# Altium schematic symbol library Connectors-JST.SchLib: 20 symbols
Pins are listed as number, name and electrical type; pins without a type are passive.

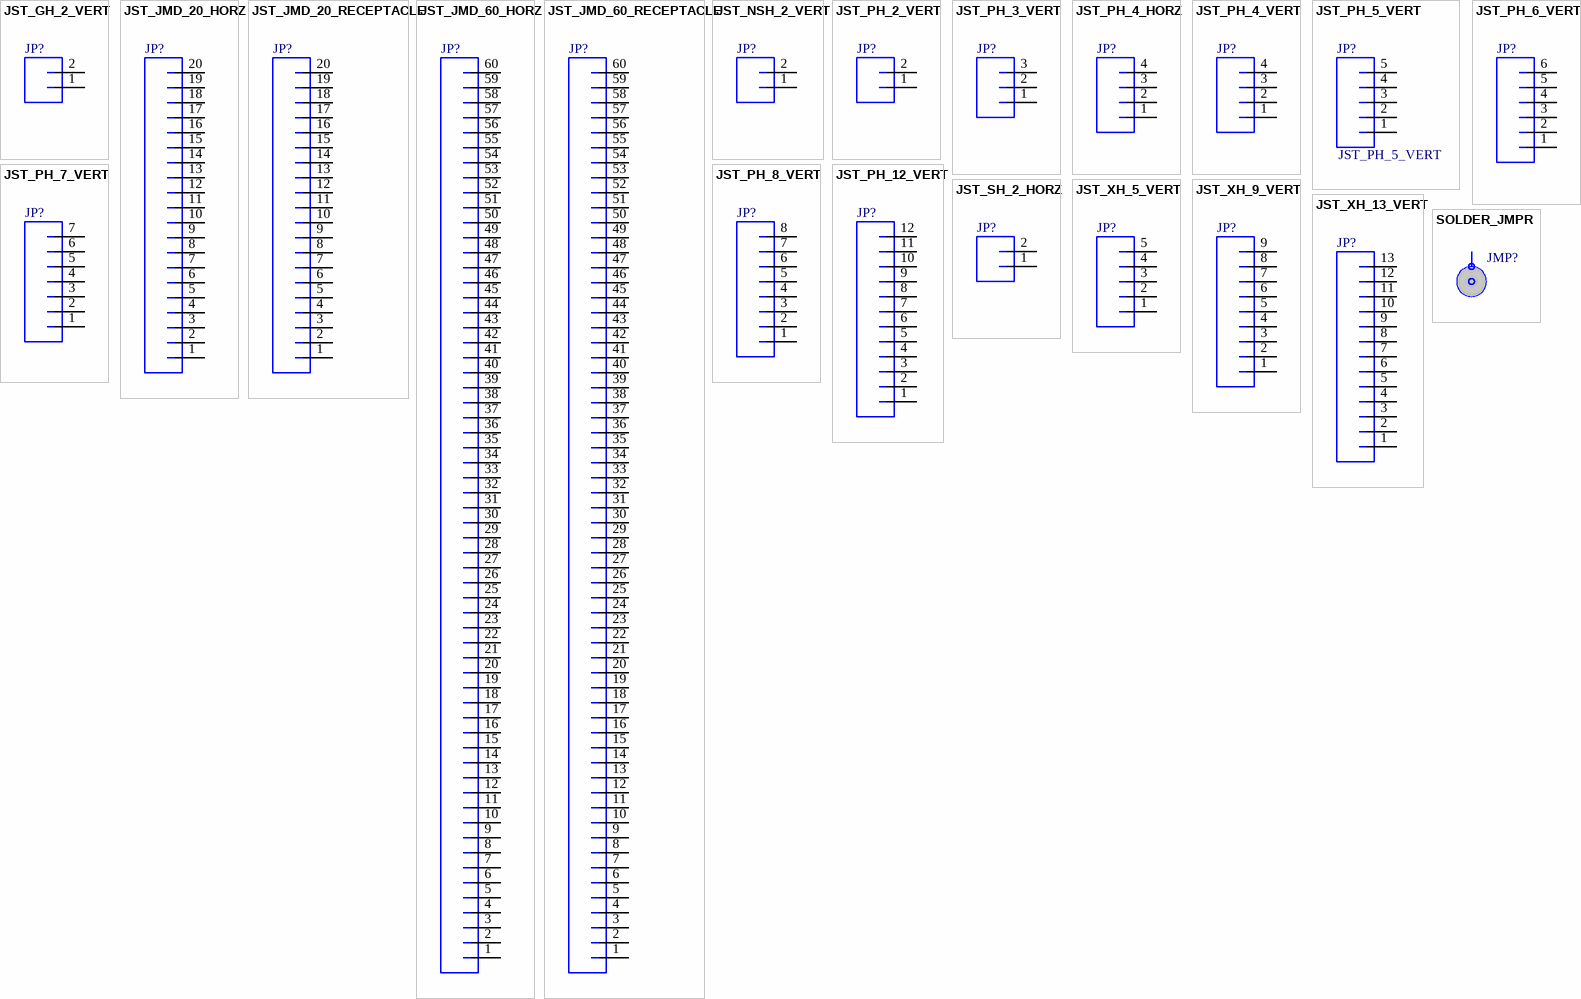
[diagram p0: symbols JST_GH_2_VERT to SOLDER_JMPR]

## JST_GH_2_VERT
designator JP?
Manufacturer: JST Sales America, Inc.; PartNumber: BM02B-GHS-TBT(LF)(SN)(N); Mounting Technology: Surface Mount; PackageReference: JST-GH
footprint JST-GH-2-SMD-VERT
pins: 1, 2

## JST_JMD_20_HORZ
designator JP?  (value not drawn)
Manufacturer: JST Sales America, Inc.; PartNumber: 20PS-JMDSS-G-1-TF; PackageReference: JMD-20; Mounting Technology: Surface Mount
footprint JST-JMD-20-SMD-HORZ
pins: 1, 2, 3, 4, 5, 6, 7, 8, 9, 10, 11, 12, 13, 14, 15, 16, 17, 18, 19, 20

## JST_JMD_20_RECEPTACLE
designator JP?  (value not drawn)
Manufacturer: JST Sales America, Inc.; PartNumber: 20R-JMDSS-G-1-TF(S); PackageReference: JMD-20; Mounting Technology: Surface Mount
footprint JST-JMD-20-SMD-RECEPTACLE
pins: 1, 2, 3, 4, 5, 6, 7, 8, 9, 10, 11, 12, 13, 14, 15, 16, 17, 18, 19, 20

## JST_JMD_60_HORZ
designator JP?  (value not drawn)
Manufacturer: JST Sales America, Inc.; PartNumber: 60PS-JMDSS-G-1-TF; PackageReference: JMD-60; Mounting Technology: Surface Mount
footprint JST-JMD-60-SMD-HORZ
pins: 1, 2, 3, 4, 5, 6, 7, 8, 9, 10, 11, 12, 13, 14, 15, 16, 17, 18, 19, 20, 21, 22, 23, 24, 25, 26, 27, 28, 29, 30, 31, 32, 33, 34, 35, 36, 37, 38, 39, 40, 41, 42, 43, 44, 45, 46, 47, 48, 49, 50, 51, 52, 53, 54, 55, 56, 57, 58, 59, 60

## JST_JMD_60_RECEPTACLE
designator JP?  (value not drawn)
Manufacturer: JST Sales America, Inc.; PartNumber: 60R-JMDSS-G-1-TF(S); PackageReference: JMD-60; Mounting Technology: Surface Mount
footprint JST-JMD-60-SMD-RECEPTACLE
pins: 1, 2, 3, 4, 5, 6, 7, 8, 9, 10, 11, 12, 13, 14, 15, 16, 17, 18, 19, 20, 21, 22, 23, 24, 25, 26, 27, 28, 29, 30, 31, 32, 33, 34, 35, 36, 37, 38, 39, 40, 41, 42, 43, 44, 45, 46, 47, 48, 49, 50, 51, 52, 53, 54, 55, 56, 57, 58, 59, 60

## JST_NSH_2_VERT
designator JP?
Manufacturer: JST Sales America, Inc.; PartNumber: BM02B-NSHSS-TBT(LF)(SN); Mounting Technology: Surface Mount; PackageReference: JST-NSH
footprint JST-NSH-2-SMD-VERT
pins: 1, 2

## JST_PH_2_VERT
designator JP?
Manufacturer: JST Sales America, Inc.; PartNumber: B2B-PH-K-S(LF)(SN); Mounting Technology: Through Hole; PackageReference: JST-PH
footprint JST-PH-2-PTH-VERT
pins: 1, 2

## JST_PH_3_VERT
designator JP?
footprint JST-PH-3-PTH-VERT
pins: 1, 2, 3

## JST_PH_4_HORZ
designator JP?
PartNumber: S4B-PH-K-S(LF)(SN); Manufacturer: JST Sales America Inc.; PackageReference: JST-PH; Mounting Technology: Through Hole
footprint JST-PH-4-PTH-HORZ
pins: 1, 2, 3, 4

## JST_PH_4_VERT
designator JP?
PartNumber: B4B-PH-K-S(LF)(SN); Manufacturer: JST Sales America Inc.; PackageReference: JST-PH; Mounting Technology: Through Hole
footprint JST-PH-4-PTH-VERT
pins: 1, 2, 3, 4

## JST_PH_5_VERT
designator JP?
Manufacturer: JST Sales America, Inc.; PartNumber: B5B-PH-K-S(LF)(SN); PackageReference: JST-PH; Mounting Technology: Through Hole
footprint JST-PH-5-PTH-VERT
pins: 1, 2, 3, 4, 5

## JST_PH_6_VERT
designator JP?
PartNumber: B6B-PH-K-S(LF)(SN); Manufacturer: JST Sales America Inc.; PackageReference: JST-PH; Mounting Technology: Through Hole
footprint JST-PH-6-PTH-VERT
pins: 1, 2, 3, 4, 5, 6

## JST_PH_7_VERT
designator JP?
PartNumber: B7B-PH-K-S(LF)(SN); Manufacturer: JST Sales America Inc.; Mounting Technology: Through Hole; PackageReference: JST-PH
footprint JST-PH-7-PTH-VERT
pins: 1, 2, 3, 4, 5, 6, 7

## JST_PH_8_VERT
designator JP?
footprint JST-PH-8-PTH-VERT
pins: 1, 2, 3, 4, 5, 6, 7, 8

## JST_PH_12_VERT
designator JP?
footprint JST-PH-12-PTH-VERT
pins: 1, 2, 3, 4, 5, 6, 7, 8, 9, 10, 11, 12

## JST_SH_2_HORZ
designator JP?
Manufacturer: JST Sales America, Inc.; PartNumber: SM02B-SRSS-TB; Mounting Technology: Surface Mount; PackageReference: JST-SH
footprint JST-SH-2-SMD-HORZ
pins: 1, 2

## JST_XH_5_VERT
designator JP?
Manufacturer: JST Sales America, Inc.; PartNumber: B5B-XH-A(LF)(SN); Mounting Technology: Through Hole; PackageReference: JST-XH
footprint JST-XH-5-PTH-VERT
pins: 1, 2, 3, 4, 5

## JST_XH_9_VERT
designator JP?
Manufacturer: JST Sales America, Inc.; PartNumber: B9B-XH-A(LF)(SN); Mounting Technology: Through Hole; PackageReference: JST-XH
footprint JST-XH-9-PTH-VERT
pins: 1, 2, 3, 4, 5, 6, 7, 8, 9

## JST_XH_13_VERT
designator JP?
Manufacturer: JST Sales America, Inc.; PartNumber: B13B-XH-A(LF)(SN); Mounting Technology: Through Hole; PackageReference: JST-XH
footprint JST-XH-13-PTH-VERT
pins: 1, 2, 3, 4, 5, 6, 7, 8, 9, 10, 11, 12, 13

## SOLDER_JMPR
designator JMP?, comment Solder Jumper  (value not drawn)
footprint SOLDER-JUMPER
pins: 1, 2